# Altium schematic symbol library LED_GREEN_A1K2-2.A1.Schlib: 1 symbol
Pins are listed as number, name and electrical type; pins without a type are passive.

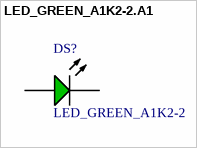
[diagram p0: symbol LED_GREEN_A1K2-2.A1]

## LED_GREEN_A1K2-2.A1
designator DS?, comment LED_GREEN_A1K2-2
pins: 1 K, 2 A